# EAGLE library part J00-0014NL (library Modular Jacks)
CONN MAGJACK 1PORT 100 BASE-TX Manufacturer's datasheet <https://productfinder.pulseeng.com/doc_type/WEB301/doc_num/J403/doc_part/J403.pdf>
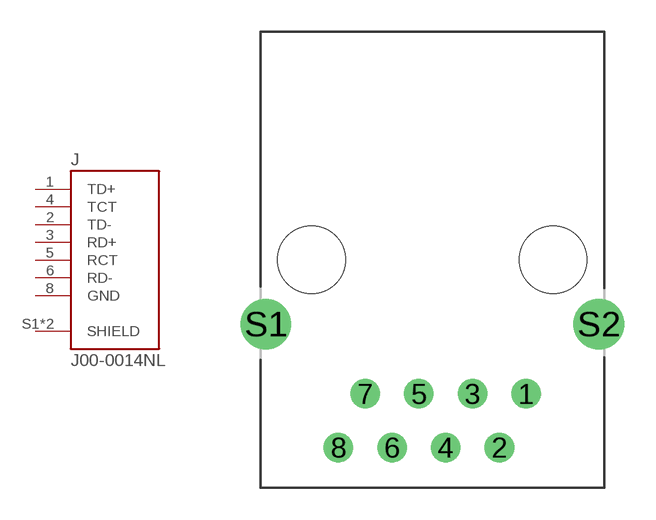
[diagram p8: symbol with the pads of J00-0014NL; footprint J00-0014NL]

Designator prefix J

## J00-0014NL (CREATED_BY: PCBLayout.com; DIGIKEY_PARTNO: 553-1612-5-ND; MANUFACTURER: Pulse Electronics Network; MPN: J00-0014NL)  [J00-0014NL]
1  TD+  pas
2  TD-  pas
3  RD+  pas
4  TCT  pas
5  RCT  pas
6  RD-  pas
8  GND  pas
S1  SHIELD  pwr
S2  SHIELD  pwr

## Footprint J00-0014NL (pad centres in mm)
drill 0.89: 1 4.445,-6.35; 2 3.175,-8.89; 3 1.905,-6.35; 4 0.635,-8.89; 5 -0.635,-6.35; 6 -1.905,-8.89; 7 -3.175,-6.35; 8 -4.445,-8.89
drill 1.6: S1 -7.875,-3.05; S2 7.875,-3.05
hole 3.2 at -5.715,0
hole 3.2 at 5.715,0